# Altium footprint library PCB - SPECIALISEDSENSOR - TALEMA AC1040.PCBLIB: 1 footprints
Each footprint in its own frame and in the unit in brackets; x right, y up, seen from the top. Pads: shape width x height; smd on the part's side, far side on the other; paste and mask are expansions set on the pad; w line width, h text height; cw(c..) or ccw(c..) is an arc to the next point about the centre after c.
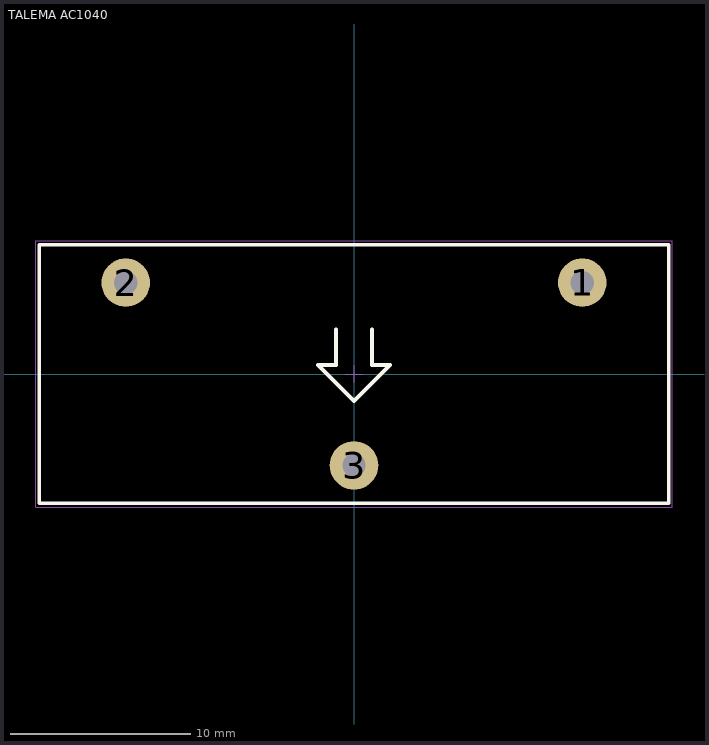
[diagram p0: the footprint, top view; thin cyan lines are the x and y axes]

## TALEMA AC1040 [mm] "CURRENT TRANSFORMER 34.90x34.90x14.30"
height 34.9
pads (3):
  round 2.7 hole 1.3: 1(12.7,5.08) 2(-12.7,5.08) 3(0,-5.08)
Top Overlay:
  lines w0.2: -1,2.5 -1,0.5 -2,0.5 0,-1.5 2,0.5 1,0.5 1,2.5 ; -17.5,-7.2 17.5,-7.2 17.5,7.2 -17.5,7.2 -17.5,-7.2
Mechanical 13:
  lines w0.1: -17.5,-7.2 17.5,-7.2 17.5,7.2 -17.5,7.2 -17.5,-7.2
Mechanical 15:
  lines w0.05: -0.5,0 0.5,0 ; 0,-0.5 0,0.5 ; -17.7,-7.4 17.7,-7.4 17.7,7.4 -17.7,7.4 -17.7,-7.4
3D body "TALEMA - AC1040.step": height 35.4, standoff -5, extent -17.45,-7.15 17.45,7.15